# EAGLE library part TI-LM2665 (library TI-LM2665M6)
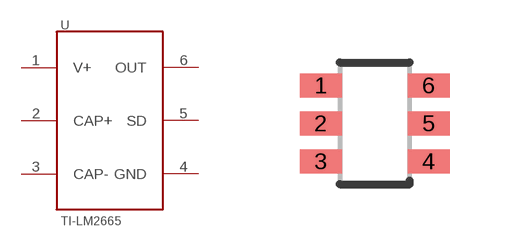
[diagram p0: symbol with the pads of SOT23-5; footprint SOT23-5]

Designator prefix -

## TI-LM2665M6  [SOT23-5]
1  V+
2  CAP+
3  CAP-
4  GND
5  SD
6  OUT

## Footprint SOT23-5 (pad centres in mm)
smd 1.05 x 0.6: 1 -1.35,0.95; 2 -1.35,0; 3 -1.35,-0.95; 4 1.35,-0.95; 5 1.35,0; 6 1.35,0.95